# Altium footprint library DG350-3.5-02P-14.PcbLib: 1 footprints
Each footprint in its own frame and in the unit in brackets; x right, y up, seen from the top. Pads: shape width x height; smd on the part's side, far side on the other; paste and mask are expansions set on the pad; w line width, h text height; cw(c..) or ccw(c..) is an arc to the next point about the centre after c.
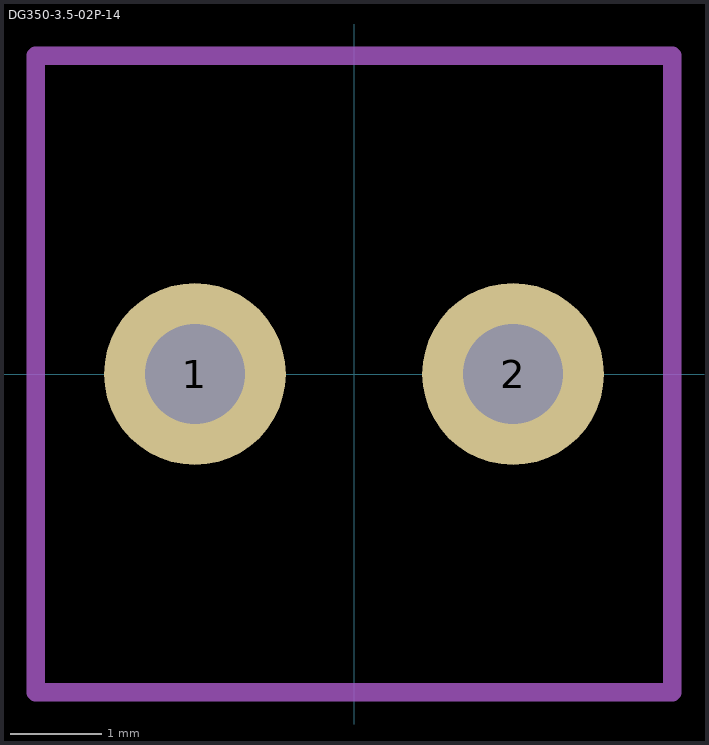
[diagram p0: the footprint, top view; thin cyan lines are the x and y axes]

## DG350-3.5-02P-14 [mm]
pads (2):
  round 2 hole 1.1: 1(-1.75,0) 2(1.75,0)
Mechanical 13:
  lines w0.2: -3.5,-3.5 3.5,-3.5 3.5,3.5 -3.5,3.5 -3.5,-3.5
  text ".Designator" at -1.425,2.286 h1.52
3D body: height 8.3, standoff -4.2, extent -4,-3.429 4,3.571